# Altium schematic symbol library S2B-PH-SM4-TB_LF__SN_.SchLib: 1 symbol
Pins are listed as number, name and electrical type; pins without a type are passive.

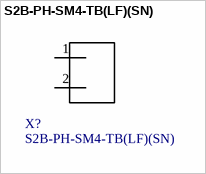
[diagram p0: symbol S2B-PH-SM4-TB(LF)(SN)]

## S2B-PH-SM4-TB(LF)(SN)
designator X?
PH Series 2 Position 2 mm Pitch Surface Mount Side Entry Shrouded Header; MP: S2B-PH-SM4-TB_LF__SN_; MF: JST Sales; SnapEDA_Link: https://www.snapeda.com/parts/S2B-PH-SM4-TB%28LF%29%28SN%29/JST%20Sales%20America%20Inc./view-part/?ref=snap; Availability: Unavailable; Package: FakePackage u; Price: None; Value: *
footprint S2B-PH-SM4-TB(LF)(SN)
pins: 1, 2